# Altium schematic symbol library RM6.SchLib: 1 symbol
Pins are listed as number, name and electrical type; pins without a type are passive.

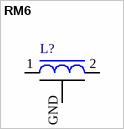
[diagram p0: symbol RM6]

## RM6
designator L?
Inductor, RM6 Core; ComponentLink1Description: Datasheet; ComponentLink1URL: https://www.tdk-electronics.tdk.com/inf/80/db/fer/rm_6.pdf
footprint RM6 (Frame: B65808E1508T001, Core 2xRM6, 8pin)
pins: 1, 2, GND (power)